# EAGLE library part UJ2-MIBH-4-SMT (library MStar-WLAN)
Micro B, USB 2.0, 1.8 A, Right Angle, Surface Mount (SMT), USB Receptacle
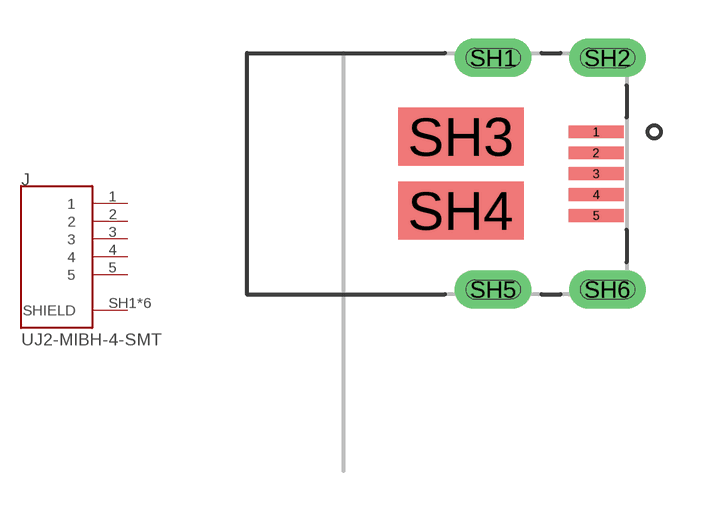
[diagram p11: symbol with the pads of CUI_UJ2-MIBH-4-SMT; footprint CUI_UJ2-MIBH-4-SMT]

Designator prefix J

## UJ2-MIBH-4-SMT (MANUFACTURER: CUI INC; PART_REV: 1.0; STANDARD: MANUFACTURER RECOMMENDATIONS)  [CUI_UJ2-MIBH-4-SMT]
1  1  pas
2  2  pas
3  3  pas
4  4  pas
5  5  pas
SH1  SHIELD  pas
SH2  SHIELD  pas
SH3  SHIELD  pas
SH4  SHIELD  pas
SH5  SHIELD  pas
SH6  SHIELD  pas

## Footprint CUI_UJ2-MIBH-4-SMT (pad centres in mm)
smd 1.7 x 0.4: 1 0,0.03; 2 0,-0.62; 3 0,-1.27; 4 0,-1.92; 5 0,-2.57
drill 0.6 pad 1.2 long: SH1 -3.2,2.33; SH2 0.35,2.33; SH5 -3.2,-4.87; SH6 0.35,-4.87
smd 3.9 x 1.8: SH3 -4.2,-0.12; SH4 -4.2,-2.42